# EAGLE library part MICROCHIP-RN41 (library GClueBT)
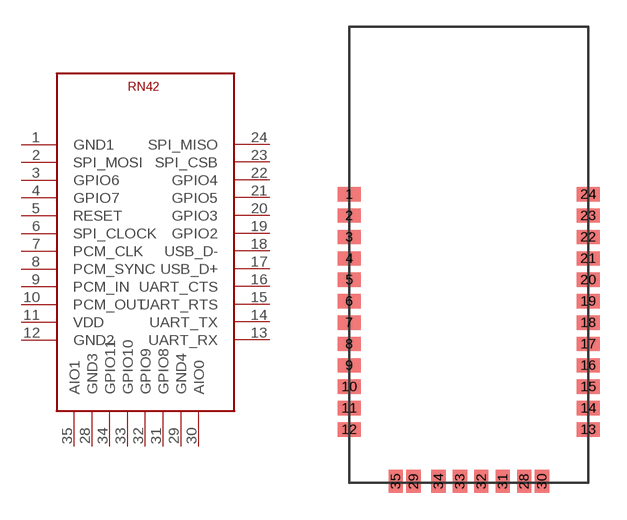
[diagram p6: symbol with the pads of MICROCHIP-RN42; footprint MICROCHIP-RN42]

Designator prefix -

## MICROCHIP-RN41  [MICROCHIP-RN42]
1  GND1
2  SPI_MOSI
3  GPIO6
4  GPIO7
5  RESET
6  SPI_CLOCK
7  PCM_CLK
8  PCM_SYNC
9  PCM_IN
10  PCM_OUT
11  VDD
12  GND2
13  UART_RX
14  UART_TX
15  UART_RTS
16  UART_CTS
17  USB_D+
18  USB_D-
19  GPIO2
20  GPIO3
21  GPIO5
22  GPIO4
23  SPI_CSB
24  SPI_MISO
28  GND3
29  GND4
30  AIO0
31  GPIO8
32  GPIO9
33  GPIO10
34  GPIO11
35  AIO1

## Footprint MICROCHIP-RN42 (pad centres in mm)
smd 1.3 x 0.8: 1 -6.7,3.4; 2 -6.7,2.2; 3 -6.7,1; 4 -6.7,-0.2; 5 -6.7,-1.4; 6 -6.7,-2.6; 7 -6.7,-3.8; 8 -6.7,-5; 9 -6.7,-6.2; 10 -6.7,-7.4; 11 -6.7,-8.6; 12 -6.7,-9.8; 13 6.7,-9.8; 14 6.7,-8.6; 15 6.7,-7.4; 16 6.7,-6.2; 17 6.7,-5; 18 6.7,-3.8; 19 6.7,-2.6; 20 6.7,-1.4; 21 6.7,-0.2; 22 6.7,1; 23 6.7,2.2; 24 6.7,3.4
smd 0.8 x 1.3: 28 3.1,-12.7; 29 -3.1,-12.7; 30 4.1,-12.7; 31 1.9,-12.7; 32 0.7,-12.7; 33 -0.5,-12.7; 34 -1.7,-12.7; 35 -4.1,-12.7